# EAGLE library part ADXL345 (library IC)
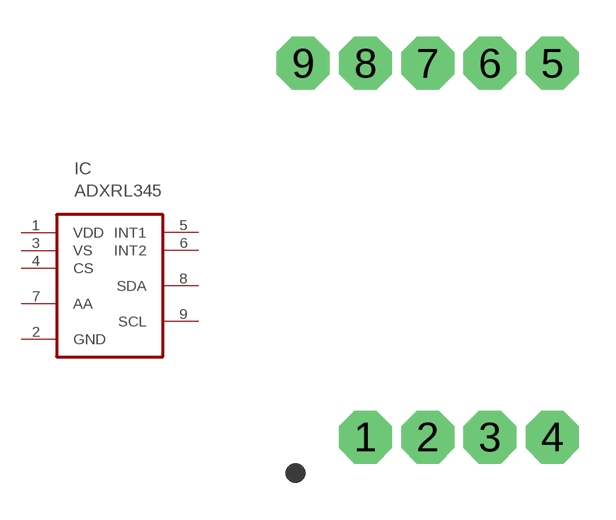
[diagram p5: symbol with the pads of DIP9-2.54; footprint DIP9-2.54]

Designator prefix IC

## ADXL345  [DIP9-2.54]
1  VDD  pwr
2  GND  pwr
3  VS  out
4  CS  in
5  INT1  out
6  INT2  out
7  AA  in
8  SDA
9  SCL

## Footprint DIP9-2.54 (pad centres in mm)
drill 1.016 pad 2.159 octagon: 1 -2.54,-7.62; 2 0,-7.62; 3 2.54,-7.62; 4 5.08,-7.62; 5 5.08,7.62; 6 2.54,7.62; 7 0,7.62; 8 -2.54,7.62; 9 -5.08,7.62